# Altium schematic symbol library Schlib1.SchLib: 1 symbol
Pins are listed as number, name and electrical type; pins without a type are passive.

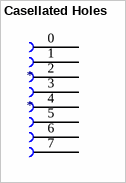
[diagram p0: symbol Casellated Holes]

## Casellated Holes
designator *
footprint 8 Castelted holes
pins: 0, 1 0, 2 0, 3 0, 4 0, 5 0, 6 0, 7 0